# EAGLE library part DSPIC33EP512MU810-X_PF (library DSPIC33EP512MU810-IPF)
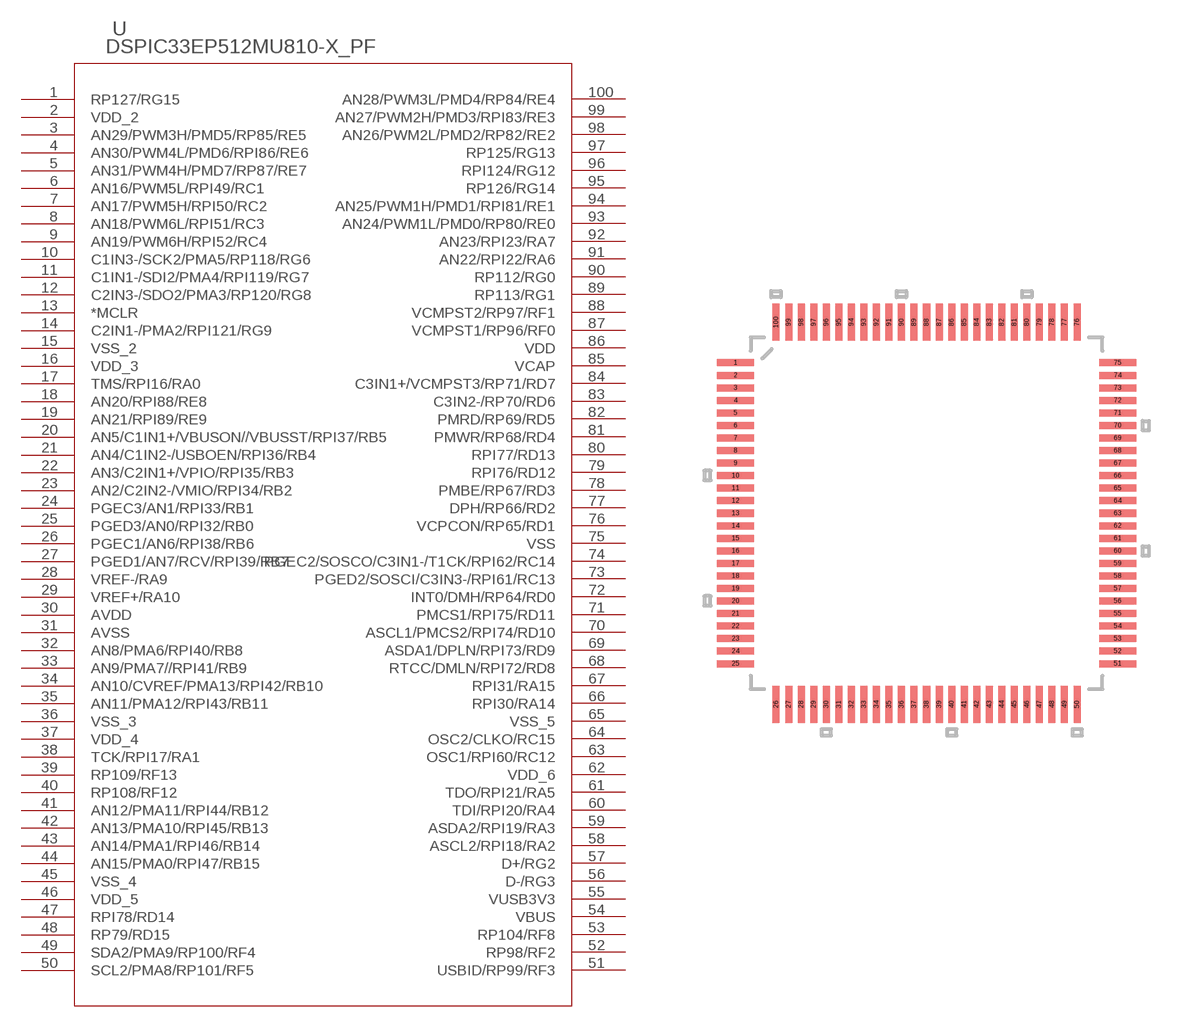
[diagram p0: symbol with the pads of TQFP100_14X14MC; footprint TQFP100_14X14MC]

Designator prefix U

## DSPIC33EP512MU810-X_PF (MANUFACTURER_PART_NUMBER: dspic33ep512mu810-x_pf; VENDOR: MICROCHIP)  [TQFP100_14X14MC]
1  RP127/RG15  pas
2  VDD_2  pwr
3  AN29/PWM3H/PMD5/RP85/RE5  pas
4  AN30/PWM4L/PMD6/RPI86/RE6  pas
5  AN31/PWM4H/PMD7/RP87/RE7  pas
6  AN16/PWM5L/RPI49/RC1  pas
7  AN17/PWM5H/RPI50/RC2  pas
8  AN18/PWM6L/RPI51/RC3  pas
9  AN19/PWM6H/RPI52/RC4  pas
10  C1IN3-/SCK2/PMA5/RP118/RG6  pas
11  C1IN1-/SDI2/PMA4/RPI119/RG7  pas
12  C2IN3-/SDO2/PMA3/RP120/RG8  pas
13  *MCLR  in
14  C2IN1-/PMA2/RPI121/RG9  pas
15  VSS_2  pwr
16  VDD_3  pwr
17  TMS/RPI16/RA0  pas
18  AN20/RPI88/RE8  pas
19  AN21/RPI89/RE9  pas
20  AN5/C1IN1+/VBUSON//VBUSST/RPI37/RB5  pas
21  AN4/C1IN2-/USBOEN/RPI36/RB4  pas
22  AN3/C2IN1+/VPIO/RPI35/RB3  pas
23  AN2/C2IN2-/VMIO/RPI34/RB2  pas
24  PGEC3/AN1/RPI33/RB1  pas
25  PGED3/AN0/RPI32/RB0  pas
26  PGEC1/AN6/RPI38/RB6  pas
27  PGED1/AN7/RCV/RPI39/RB7  pas
28  VREF-/RA9  pas
29  VREF+/RA10  pas
30  AVDD  pwr
31  AVSS  pwr
32  AN8/PMA6/RPI40/RB8  pas
33  AN9/PMA7//RPI41/RB9  pas
34  AN10/CVREF/PMA13/RPI42/RB10  pas
35  AN11/PMA12/RPI43/RB11  pas
36  VSS_3  pwr
37  VDD_4  pwr
38  TCK/RPI17/RA1  pas
39  RP109/RF13  pas
40  RP108/RF12  pas
41  AN12/PMA11/RPI44/RB12  pas
42  AN13/PMA10/RPI45/RB13  pas
43  AN14/PMA1/RPI46/RB14  pas
44  AN15/PMA0/RPI47/RB15  pas
45  VSS_4  pwr
46  VDD_5  pwr
47  RPI78/RD14  pas
48  RP79/RD15  pas
49  SDA2/PMA9/RP100/RF4  pas
50  SCL2/PMA8/RP101/RF5  pas
51  USBID/RP99/RF3  pas
52  RP98/RF2  pas
53  RP104/RF8  pas
54  VBUS  pwr
55  VUSB3V3  pwr
56  D-/RG3  pas
57  D+/RG2  pas
58  ASCL2/RPI18/RA2  pas
59  ASDA2/RPI19/RA3  pas
60  TDI/RPI20/RA4  pas
61  TDO/RPI21/RA5  pas
62  VDD_6  pwr
63  OSC1/RPI60/RC12  pas
64  OSC2/CLKO/RC15  pas
65  VSS_5  pwr
66  RPI30/RA14  pas
67  RPI31/RA15  pas
68  RTCC/DMLN/RPI72/RD8  pas
69  ASDA1/DPLN/RPI73/RD9  pas
70  ASCL1/PMCS2/RPI74/RD10  pas
71  PMCS1/RPI75/RD11  pas
72  INT0/DMH/RP64/RD0  pas
73  PGED2/SOSCI/C3IN3-/RPI61/RC13  pas
74  PGEC2/SOSCO/C3IN1-/T1CK/RPI62/RC14  pas
75  VSS  pwr
76  VCPCON/RP65/RD1  pas
77  DPH/RP66/RD2  pas
78  PMBE/RP67/RD3  pas
79  RPI76/RD12  pas
80  RPI77/RD13  pas
81  PMWR/RP68/RD4  pas
82  PMRD/RP69/RD5  pas
83  C3IN2-/RP70/RD6  pas
84  C3IN1+/VCMPST3/RP71/RD7  pas
85  VCAP  pwr
86  VDD  pwr
87  VCMPST1/RP96/RF0  pas
88  VCMPST2/RP97/RF1  pas
89  RP113/RG1  pas
90  RP112/RG0  pas
91  AN22/RPI22/RA6  pas
92  AN23/RPI23/RA7  pas
93  AN24/PWM1L/PMD0/RP80/RE0  pas
94  AN25/PWM1H/PMD1/RPI81/RE1  pas
95  RP126/RG14  pas
96  RPI124/RG12  pas
97  RP125/RG13  pas
98  AN26/PWM2L/PMD2/RP82/RE2  pas
99  AN27/PWM2H/PMD3/RPI83/RE3  pas
100  AN28/PWM3L/PMD4/RP84/RE4  pas

## Footprint TQFP100_14X14MC (pad centres in mm)
smd 1.473 x 0.279: 1 -7.62,6; 2 -7.62,5.5; 3 -7.62,5; 4 -7.62,4.5; 5 -7.62,4; 6 -7.62,3.5; 7 -7.62,3; 8 -7.62,2.5; 9 -7.62,2; 10 -7.62,1.5; 11 -7.62,1; 12 -7.62,0.5; 13 -7.62,0; 14 -7.62,-0.5; 15 -7.62,-1; 16 -7.62,-1.5; 17 -7.62,-2; 18 -7.62,-2.5; 19 -7.62,-3; 20 -7.62,-3.5; 21 -7.62,-4; 22 -7.62,-4.5; 23 -7.62,-5; 24 -7.62,-5.5; 25 -7.62,-6; 51 7.62,-6; 52 7.62,-5.5; 53 7.62,-5; 54 7.62,-4.5; 55 7.62,-4; 56 7.62,-3.5; 57 7.62,-3; 58 7.62,-2.5; 59 7.62,-2; 60 7.62,-1.5; 61 7.62,-1; 62 7.62,-0.5; 63 7.62,0; 64 7.62,0.5; 65 7.62,1; 66 7.62,1.5; 67 7.62,2; 68 7.62,2.5; 69 7.62,3; 70 7.62,3.5; 71 7.62,4; 72 7.62,4.5; 73 7.62,5; 74 7.62,5.5; 75 7.62,6
smd 0.279 x 1.473: 26 -6,-7.62; 27 -5.5,-7.62; 28 -5,-7.62; 29 -4.5,-7.62; 30 -4,-7.62; 31 -3.5,-7.62; 32 -3,-7.62; 33 -2.5,-7.62; 34 -2,-7.62; 35 -1.5,-7.62; 36 -1,-7.62; 37 -0.5,-7.62; 38 0,-7.62; 39 0.5,-7.62; 40 1,-7.62; 41 1.5,-7.62; 42 2,-7.62; 43 2.5,-7.62; 44 3,-7.62; 45 3.5,-7.62; 46 4,-7.62; 47 4.5,-7.62; 48 5,-7.62; 49 5.5,-7.62; 50 6,-7.62; 76 6,7.62; 77 5.5,7.62; 78 5,7.62; 79 4.5,7.62; 80 4,7.62; 81 3.5,7.62; 82 3,7.62; 83 2.5,7.62; 84 2,7.62; 85 1.5,7.62; 86 1,7.62; 87 0.5,7.62; 88 0,7.62; 89 -0.5,7.62; 90 -1,7.62; 91 -1.5,7.62; 92 -2,7.62; 93 -2.5,7.62; 94 -3,7.62; 95 -3.5,7.62; 96 -4,7.62; 97 -4.5,7.62; 98 -5,7.62; 99 -5.5,7.62; 100 -6,7.62